# Altium footprint library SFE-Custom-Footprints.PcbLib: 154 footprints (part 6 of 10)
Each footprint in its own frame and in the unit in brackets; x right, y up, seen from the top. Pads: shape width x height; smd on the part's side, far side on the other; paste and mask are expansions set on the pad; w line width, h text height; cw(c..) or ccw(c..) is an arc to the next point about the centre after c.
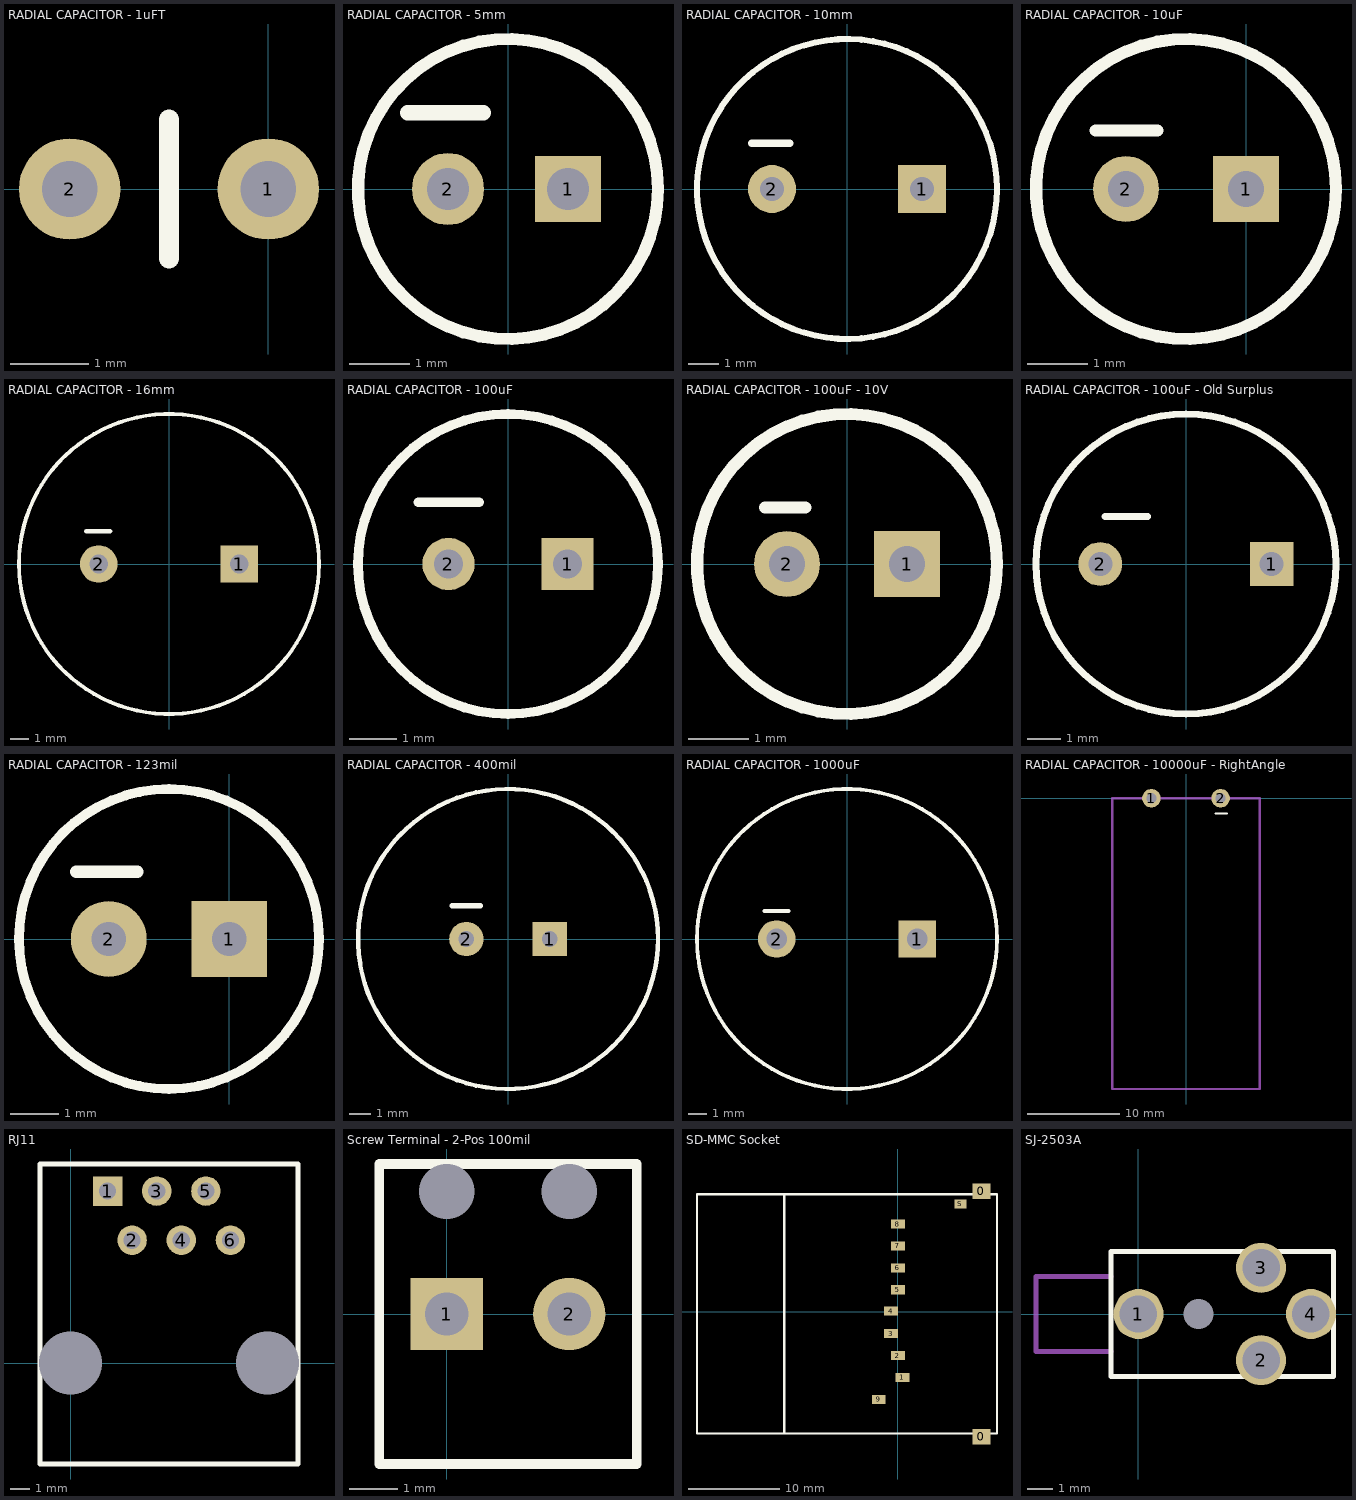
[diagram p5: the footprints below, top view; thin cyan lines are the x and y axes]

## RADIAL CAPACITOR - 1uFT [mil]
pads (2):
  round 51 hole 28: 1(0,0) 2(-100,0)
Top Overlay:
  lines w10: -50,-35 -50,35

## RADIAL CAPACITOR - 5mm [mm]
pads (2):
  rect 1.1x1.1 hole 0.7: 1(1,0)
  round 1.2 hole 0.7: 2(-1,0)
Top Overlay:
  circle w0.203: c0,0 r2.5
  lines w0.254: -1.676,1.27 -0.406,1.27

## RADIAL CAPACITOR - 10mm [mm]
pads (2):
  rect 1.6x1.6 hole 0.8: 1(2.5,0)
  round 1.6 hole 0.8: 2(-2.5,0)
Top Overlay:
  circle w0.203: c0,0 r5
  lines w0.254: -3.175,1.524 -1.905,1.524

## RADIAL CAPACITOR - 10uF [mm]
pads (2):
  rect 1.1x1.1 hole 0.6: 1(0,0)
  round 1.1 hole 0.6: 2(-2,0)
Top Overlay:
  circle w0.203: c-1,0 r2.5
  lines w0.203: -2.505,0.973 -1.477,0.973

## RADIAL CAPACITOR - 16mm [mm]
pads (2):
  rect 2x2 hole 1: 1(3.75,0)
  round 2 hole 1: 2(-3.75,0)
Top Overlay:
  circle w0.203: c0,0 r8
  lines w0.254: -4.42,1.753 -3.15,1.753

## RADIAL CAPACITOR - 100uF [mm]
pads (2):
  rect 1.1x1.1 hole 0.6: 1(1.25,0)
  round 1.1 hole 0.6 paste+0: 2(-1.25,0)
Top Overlay:
  circle w0.203: c0,0 r3.15
  lines w0.203: -1.88,1.295 -0.61,1.295

## RADIAL CAPACITOR - 100uF - 10V [mm]
pads (2):
  rect 1.1x1.1 hole 0.6: 1(1,0)
  round 1.1 hole 0.6: 2(-1,0)
Top Overlay:
  circle w0.203: c0,0 r2.5
  lines w0.203: -1.366,0.943 -0.696,0.943

## RADIAL CAPACITOR - 100uF - Old Surplus [mm]
pads (2):
  rect 1.3x1.3 hole 0.711: 1(2.54,0)
  round 1.3 hole 0.711: 2(-2.54,0)
Top Overlay:
  circle w0.203: c0,0 r4.445
  lines w0.203: -2.405,1.405 -1.135,1.405

## RADIAL CAPACITOR - 123mil [mil]
pads (2):
  rect 62x62 hole 28: 1(0,0)
  round 62 hole 28: 2(-98.42,0)
Top Overlay:
  circle w8: c-49.21,0 r122.5
  lines w10: -125,55 -75,55

## RADIAL CAPACITOR - 400mil [mil]
pads (2):
  rect 62x62 hole 28: 1(75,0)
  round 62 hole 28: 2(-75,0)
Top Overlay:
  circle w8: c0,0 r270
  lines w10: -100,60 -50,60

## RADIAL CAPACITOR - 1000uF [mm]
pads (2):
  rect 2x2 hole 1.1: 1(3.75,0)
  round 2 hole 1.1: 2(-3.75,0)
Top Overlay:
  circle w0.203: c0,0 r8
  lines w0.203: -4.394,1.499 -3.124,1.499

## RADIAL CAPACITOR - 10000uF - RightAngle [mm]
pads (2):
  round 2 hole 1.1: 1(-3.75,0) 2(3.75,0)
Top Overlay:
  lines w0.203: 3.2,-1.651 4.47,-1.651
Mechanical 1:
  lines w0.254: -8,-31.5 8,-31.5 8,0 -8,0 -8,-31.5

## RJ11 [mil]
pads (8):
  round 0 hole 128: 0(0,0) 0(400,0)
  rect 60x60 hole 35: 1(75,350)
  round 60 hole 35: 2(125,250) 3(175,350) 4(225,250) 5(275,350) 6(325,250)
Top Overlay:
  lines w10: -62.5,-205 -62.5,405 462.5,405 462.5,-205 -62.5,-205

## Screw Terminal - 2-Pos 100mil [mm]
pads (4):
  round 0 hole 1.143: 0(0,2.54) 0(2.54,2.54)
  rect 1.5x1.5 hole 0.9: 1(0,0)
  round 1.5 hole 0.9: 2(2.54,0)
Top Overlay:
  lines w0.2: -1.397,-3.111 -1.397,3.111 3.937,3.111 3.937,-3.111 -1.397,-3.111

## SD-MMC Socket [mm]
pads (12):
  rect 2x1.7 smd: 0(9.15,-13.7) 0(9.15,13.2)
  rect 1.5x1 smd: 1(0.5,-7.2) 2(0,-4.8) 3(-0.75,-2.4) 4(-0.75,0.064) 5(0,2.4) 6(0,4.8) 7(0,7.2) 8(0,9.6) 9(-2.1,-9.6)
  rect 1.3x1 smd: S(6.85,11.8)
Top Overlay:
  lines w0.254: -12.45,-13.34 -22,-13.34 -22,12.86 -12.45,12.86 ; -12.45,-13.34 10.85,-13.34 10.85,12.86 -12.45,12.86 ; -12.45,-13.34 -12.45,12.86

## SJ-2503A [mm]
pads (5):
  round 0 hole 1.2: 0(2.4,0)
  round 2 hole 1.5: 1(0,0) 2(4.9,-1.85) 3(4.9,1.85) 4(6.9,0)
Top Overlay:
  lines w0.2: -1.1,-2.5 7.8,-2.5 7.8,2.5 -1.1,2.5
  lines w0.203: -1.1,-2.5 -1.1,2.5
Mechanical 1:
  lines w0.203: -1.1,-1.5 -4.1,-1.5 -4.1,1.5 -1.1,1.5